# EAGLE library part USB3317C-CP-TR (library circuit_tree)
IC
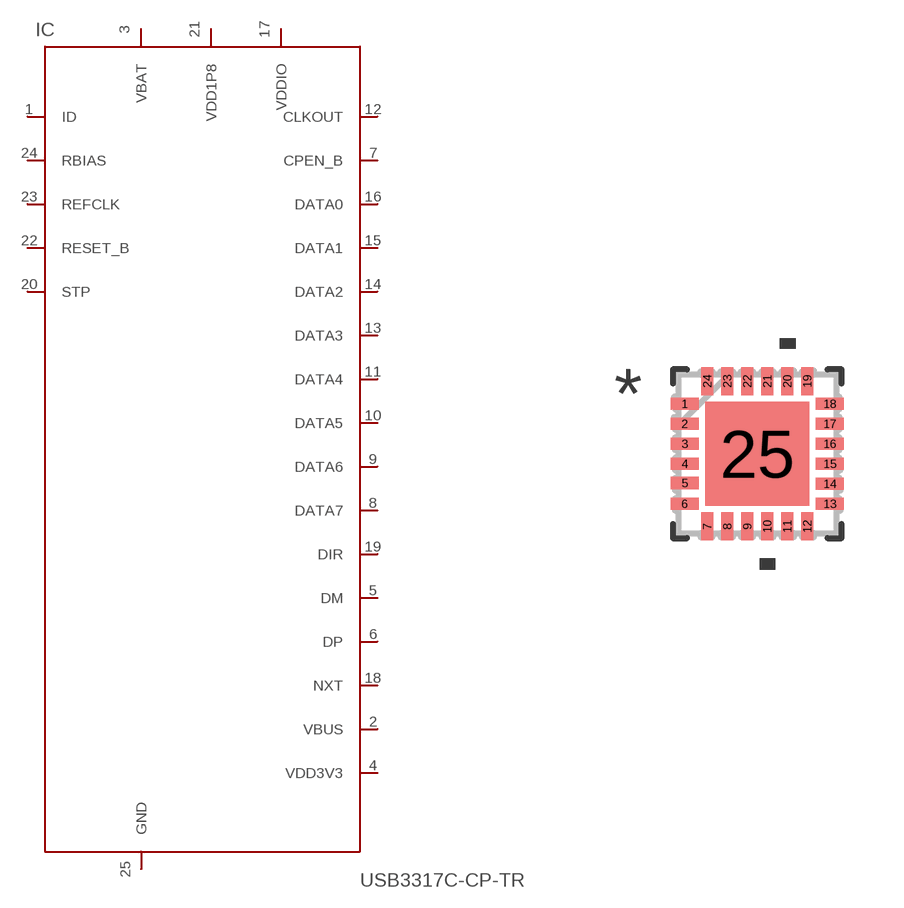
[diagram p15: symbol with the pads of QFN-24; footprint QFN-24]

Designator prefix IC

## USB3317C-CP-TR  [QFN-24]
1  ID  pas
2  VBUS  pas
3  VBAT  pas
4  VDD3V3  pas
5  DM  pas
6  DP  pas
7  CPEN_B  pas
8  DATA7  pas
9  DATA6  pas
10  DATA5  pas
11  DATA4  pas
12  CLKOUT  pas
13  DATA3  pas
14  DATA2  pas
15  DATA1  pas
16  DATA0  pas
17  VDDIO  pas
18  NXT  pas
19  DIR  pas
20  STP  pas
21  VDD1P8  pas
22  RESET_B  pas
23  REFCLK  pas
24  RBIAS  pas
25  GND  pas

## Footprint QFN-24 (pad centres in mm)
smd 0.7 x 0.305: 1 -1.815,1.25; 2 -1.815,0.75; 3 -1.815,0.25; 4 -1.815,-0.25; 5 -1.815,-0.73; 6 -1.815,-1.25; 13 1.815,-1.25; 14 1.815,-0.75; 15 1.815,-0.25; 16 1.815,0.25; 17 1.815,0.75; 18 1.815,1.25
smd 0.305 x 0.7: 7 -1.25,-1.815; 8 -0.75,-1.815; 9 -0.25,-1.815; 10 0.25,-1.815; 11 0.75,-1.815; 12 1.25,-1.815; 19 1.25,1.815; 20 0.75,1.815; 21 0.25,1.815; 22 -0.25,1.815; 23 -0.75,1.815; 24 -1.25,1.815
smd 2.591 x 2.591: 25 0,0